# EAGLE library part SI4532 (library IC & Transistor)
SMD Half Bridge Mosfet SI4532
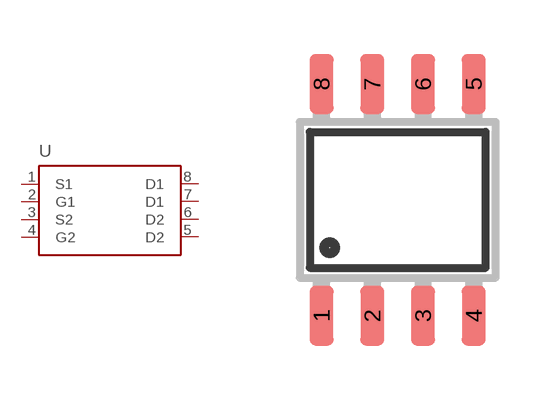
[diagram p56: symbol with the pads of SOIC-08N; footprint SOIC-08N]

Designator prefix -

## SI4532_(SOIC-08N) (CYTRON-PC: S-Q-SI4532-SO8; DESC: S Half Bridge Mosfet SI4532 SO-8; MF: FAIRCHILD; MPN: SI4532DY)  [SOIC-08N]
1  S1
2  G1
3  S2
4  G2
5  D2
6  D2
7  D1
8  D1

## Footprint SOIC-08N (pad centres in mm)
Small Outline Integrated Circuit (SOIC) Narrow (JEDEC) SOIC Package Size: 4.9mm x 3.9mm Lead Pitch: 1.27mm
smd 0.6 x 1.5: 1 -1.905,-2.9; 2 -0.635,-2.9; 3 0.635,-2.9; 4 1.905,-2.9; 5 1.905,2.9; 6 0.635,2.9; 7 -0.635,2.9; 8 -1.905,2.9